# Altium integrated library ISSI SRAM Synchronous SRAM No-Wait(ZBT).IntLib: 1246 symbols (part 44 of 152)
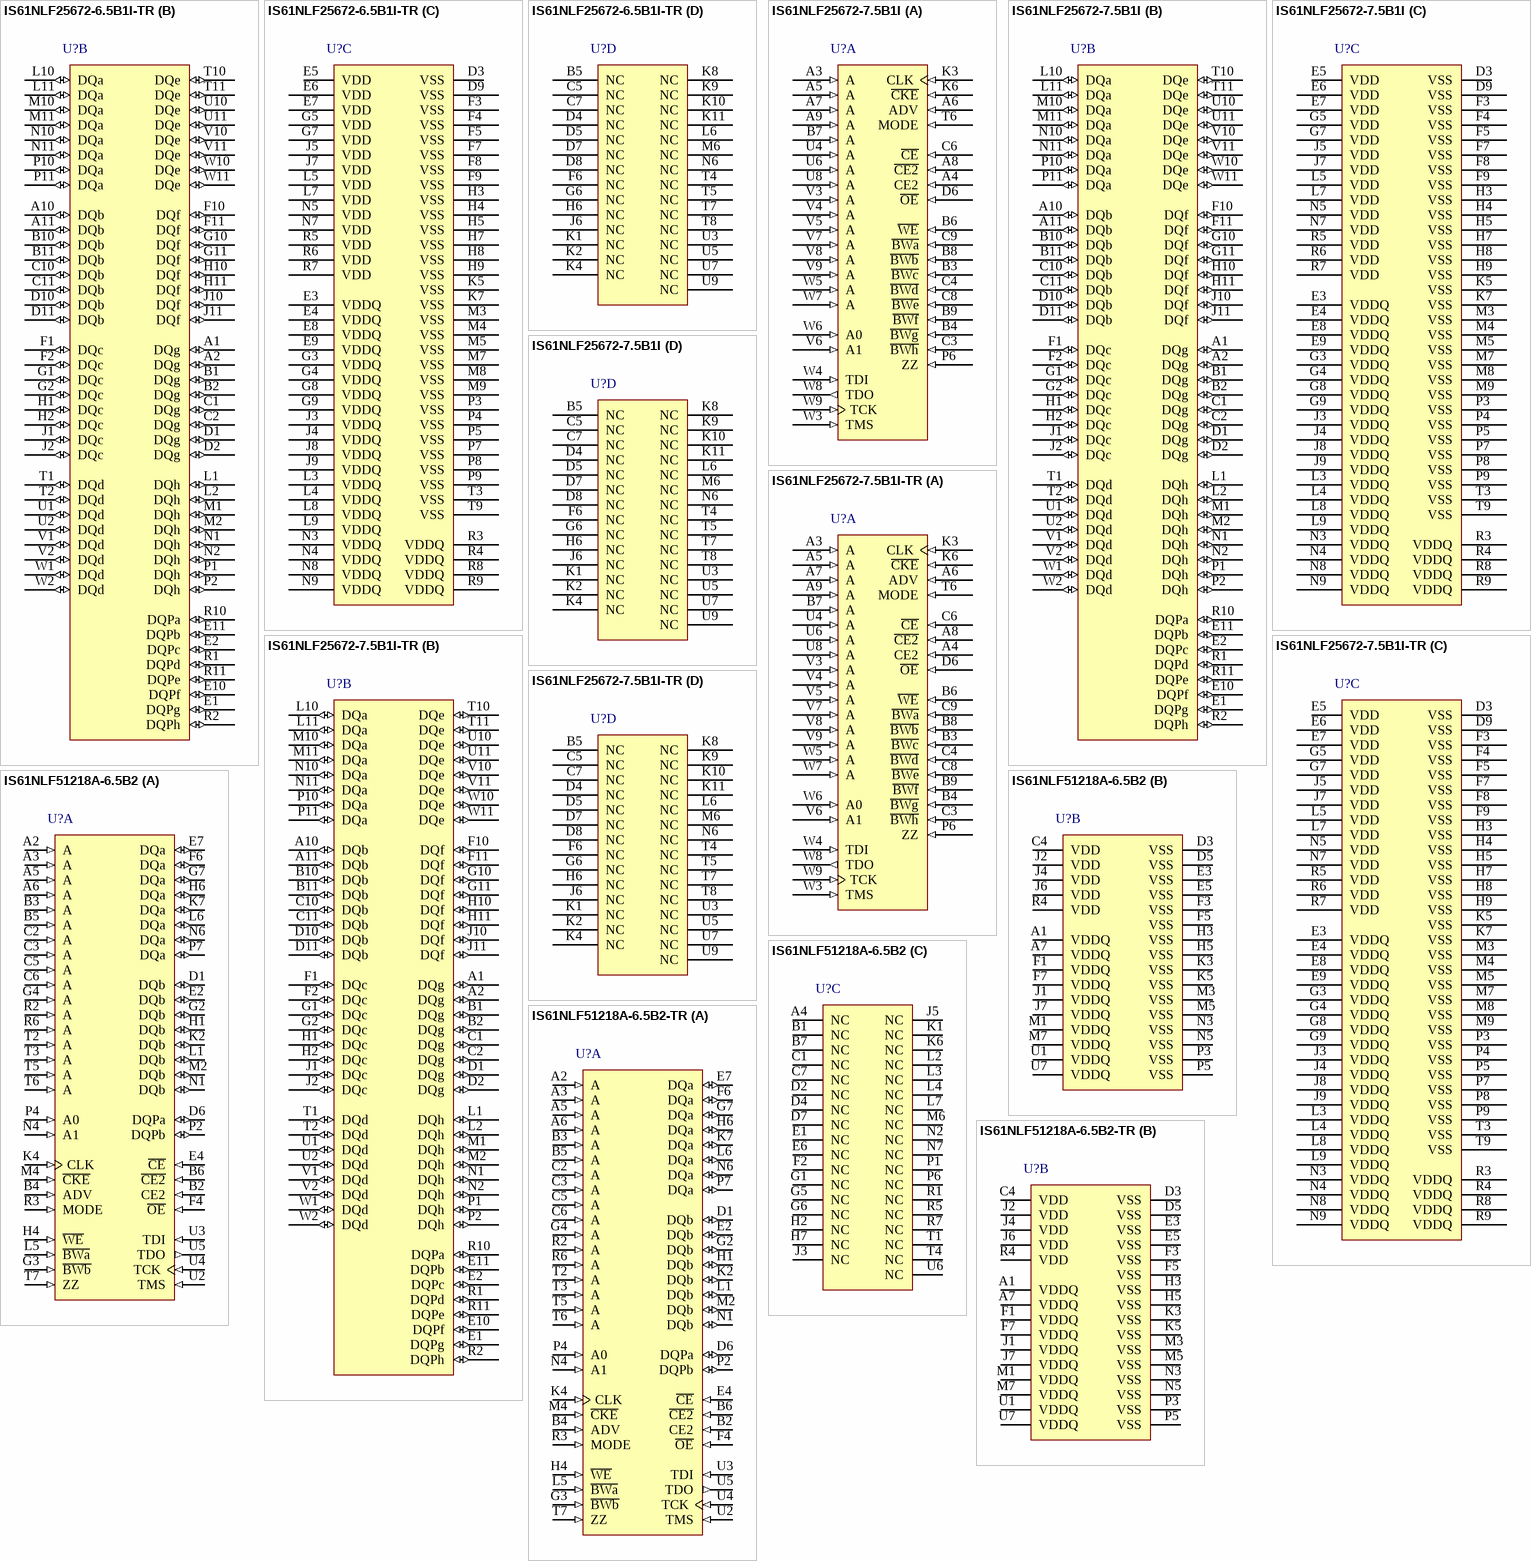
[diagram p260: symbols IS61NLF25672-6.5B1I-TR to IS61NLF51218A-6.5B2-TR]

## IS61NLF25672-7.5B1I
designator U?
18 M Flow Through 'No Wait' State Bus SRAM, 256 K x 72, -40 to 85 degC, 209-Pin BGA (LF-BGA-209); Manufacturer: Integrated Silicon Solution Inc (ISSI); PartNumber: IS61NLF25672-7.5B1I; Density: 18M; Packing: Tube / Tray; Vcc: 3.3 V; VccQ: 2.5 / 3.3 V; DatasheetVersion: Rev. D; PackageVersion: Rev. B, 12/2007; PackageReference: LF-BGA-209; PackageDescription: 209-Pin 14 x 22 mm LF-BGA, Pitch 1 mm; Supplier 1: Mouser; Supplier Part Number 1: N/A; Organization: 256Kx72; Mounting Technology: Surface Mount; ComponentLink1Description: Manufacturer URL; ComponentLink1URL: http://www.issi.com/US/index.shtml; ComponentLink2Description: Datasheet; ComponentLink2URL: http://www.issi.com/WW/pdf/61NLF_NVF25672_51236_102418.pdf; ComponentLink3Description: Package Specification; ComponentLink3URL: http://www.issi.com/WW/pdf/61NLF_NVF25672_51236_102418.pdf
footprint ISSI-LF-BGA-209-14000X22000DE (BGA, 209-Balls, Body 22x14mm, Pitch 1mm)
part A pins: A3 A (in) "Synchronous Address Input", A4 CE2 (in) "Synchronous Chip Enable", A5 A (in) "Synchronous Address Input", A6 ADV (in) "Synchronous Burst Address Advance", A7 A (in) "Synchronous Address Input", A8 ~{CE2} (in) "Synchronous Chip Enable", A9 A (in) "Synchronous Address Input", B3 ~{BWc} (in) "Synchronous Byte Write Enable", B4 ~{BWg} (in) "Synchronous Byte Write Enable", B6 ~{WE} (in) "Write Enable", B7 A (in) "Synchronous Address Input", B8 ~{BWb} (in) "Synchronous Byte Write Enable", B9 ~{BWf} (in) "Synchronous Byte Write Enable", C3 ~{BWh} (in) "Synchronous Byte Write Enable", C4 ~{BWd} (in) "Synchronous Byte Write Enable", C6 ~{CE} (in) "Synchronous Chip Enable", C8 ~{BWe} (in) "Synchronous Byte Write Enable", C9 ~{BWa} (in) "Synchronous Byte Write Enable", D6 ~{OE} (in) "Output Enable", K3 CLK (in) "Synchronous Clock", K6 ~{CKE} (in) "Clock Enable", P6 ZZ (in) "Snooze Enable", T6 MODE (in) "Burst Sequence Selection", U4 A (in) "Synchronous Address Input", U6 A (in) "Synchronous Address Input", U8 A (in) "Synchronous Address Input", V3 A (in) "Synchronous Address Input", V4 A (in) "Synchronous Address Input", V5 A (in) "Synchronous Address Input", V6 A1 (in) "Synchronous Address Input. This pin must tied to the two LSBs of the address bus.", V7 A (in) "Synchronous Address Input", V8 A (in) "Synchronous Address Input", V9 A (in) "Synchronous Address Input", W3 TMS (in) "JTAG Pin", W4 TDI (in) "JTAG Pin", W5 A (in) "Synchronous Address Input", W6 A0 (in) "Synchronous Address Input. This pin must tied to the two LSBs of the address bus.", W7 A (in) "Synchronous Address Input", W8 TDO (out) "JTAG Pin", W9 TCK (in) "JTAG Pin"
part B pins: A1 DQg (io) "Synchronous Data Input/Output", A2 DQg (io) "Synchronous Data Input/Output", A10 DQb (io) "Synchronous Data Input/Output", A11 DQb (io) "Synchronous Data Input/Output", B1 DQg (io) "Synchronous Data Input/Output", B2 DQg (io) "Synchronous Data Input/Output", B10 DQb (io) "Synchronous Data Input/Output", B11 DQb (io) "Synchronous Data Input/Output", C1 DQg (io) "Synchronous Data Input/Output", C2 DQg (io) "Synchronous Data Input/Output", C10 DQb (io) "Synchronous Data Input/Output", C11 DQb (io) "Synchronous Data Input/Output", D1 DQg (io) "Synchronous Data Input/Output", D2 DQg (io) "Synchronous Data Input/Output", D10 DQb (io) "Synchronous Data Input/Output", D11 DQb (io) "Synchronous Data Input/Output", E1 DQPg (io) "Parity Data I/O", E2 DQPc (io) "Parity Data I/O", E10 DQPf (io) "Parity Data I/O", E11 DQPb (io) "Parity Data I/O", F1 DQc (io) "Synchronous Data Input/Output", F2 DQc (io) "Synchronous Data Input/Output", F10 DQf (io) "Synchronous Data Input/Output", F11 DQf (io) "Synchronous Data Input/Output", G1 DQc (io) "Synchronous Data Input/Output", G2 DQc (io) "Synchronous Data Input/Output", G10 DQf (io) "Synchronous Data Input/Output", G11 DQf (io) "Synchronous Data Input/Output", H1 DQc (io) "Synchronous Data Input/Output", H2 DQc (io) "Synchronous Data Input/Output", H10 DQf (io) "Synchronous Data Input/Output", H11 DQf (io) "Synchronous Data Input/Output", J1 DQc (io) "Synchronous Data Input/Output", J2 DQc (io) "Synchronous Data Input/Output", J10 DQf (io) "Synchronous Data Input/Output", J11 DQf (io) "Synchronous Data Input/Output", L1 DQh (io) "Synchronous Data Input/Output", L2 DQh (io) "Synchronous Data Input/Output", L10 DQa (io) "Synchronous Data Input/Output", L11 DQa (io) "Synchronous Data Input/Output", M1 DQh (io) "Synchronous Data Input/Output", M2 DQh (io) "Synchronous Data Input/Output", M10 DQa (io) "Synchronous Data Input/Output", M11 DQa (io) "Synchronous Data Input/Output", N1 DQh (io) "Synchronous Data Input/Output", N2 DQh (io) "Synchronous Data Input/Output", N10 DQa (io) "Synchronous Data Input/Output", N11 DQa (io) "Synchronous Data Input/Output", P1 DQh (io) "Synchronous Data Input/Output", P2 DQh (io) "Synchronous Data Input/Output", P10 DQa (io) "Synchronous Data Input/Output", P11 DQa (io) "Synchronous Data Input/Output", R1 DQPd (io) "Parity Data I/O", R2 DQPh (io) "Parity Data I/O", R10 DQPa (io) "Parity Data I/O", R11 DQPe (io) "Parity Data I/O", T1 DQd (io) "Synchronous Data Input/Output", T2 DQd (io) "Synchronous Data Input/Output", T10 DQe (io) "Synchronous Data Input/Output", T11 DQe (io) "Synchronous Data Input/Output", U1 DQd (io) "Synchronous Data Input/Output", U2 DQd (io) "Synchronous Data Input/Output", U10 DQe (io) "Synchronous Data Input/Output", U11 DQe (io) "Synchronous Data Input/Output", V1 DQd (io) "Synchronous Data Input/Output", V2 DQd (io) "Synchronous Data Input/Output", V10 DQe (io) "Synchronous Data Input/Output", V11 DQe (io) "Synchronous Data Input/Output", W1 DQd (io) "Synchronous Data Input/Output", W2 DQd (io) "Synchronous Data Input/Output", W10 DQe (io) "Synchronous Data Input/Output", W11 DQe (io) "Synchronous Data Input/Output"
part C pins: D3 VSS (power) "Ground", D9 VSS (power) "Ground", E3 VDDQ (power) "Isolated Output Buffer Supply:3.3V/2.5V", E4 VDDQ (power) "Isolated Output Buffer Supply:3.3V/2.5V", E5 VDD (power) "3.3V/2.5V Power Supply", E6 VDD (power) "3.3V/2.5V Power Supply", E7 VDD (power) "3.3V/2.5V Power Supply", E8 VDDQ (power) "Isolated Output Buffer Supply:3.3V/2.5V", E9 VDDQ (power) "Isolated Output Buffer Supply:3.3V/2.5V", F3 VSS (power) "Ground", F4 VSS (power) "Ground", F5 VSS (power) "Ground", F7 VSS (power) "Ground", F8 VSS (power) "Ground", F9 VSS (power) "Ground", G3 VDDQ (power) "Isolated Output Buffer Supply:3.3V/2.5V", G4 VDDQ (power) "Isolated Output Buffer Supply:3.3V/2.5V", G5 VDD (power) "3.3V/2.5V Power Supply", G7 VDD (power) "3.3V/2.5V Power Supply", G8 VDDQ (power) "Isolated Output Buffer Supply:3.3V/2.5V", G9 VDDQ (power) "Isolated Output Buffer Supply:3.3V/2.5V", H3 VSS (power) "Ground", H4 VSS (power) "Ground", H5 VSS (power) "Ground", H7 VSS (power) "Ground", H8 VSS (power) "Ground", H9 VSS (power) "Ground", J3 VDDQ (power) "Isolated Output Buffer Supply:3.3V/2.5V", J4 VDDQ (power) "Isolated Output Buffer Supply:3.3V/2.5V", J5 VDD (power) "3.3V/2.5V Power Supply", J7 VDD (power) "3.3V/2.5V Power Supply", J8 VDDQ (power) "Isolated Output Buffer Supply:3.3V/2.5V", J9 VDDQ (power) "Isolated Output Buffer Supply:3.3V/2.5V", K5 VSS (power) "Ground", K7 VSS (power) "Ground", L3 VDDQ (power) "Isolated Output Buffer Supply:3.3V/2.5V", L4 VDDQ (power) "Isolated Output Buffer Supply:3.3V/2.5V", L5 VDD (power) "3.3V/2.5V Power Supply", L7 VDD (power) "3.3V/2.5V Power Supply", L8 VDDQ (power) "Isolated Output Buffer Supply:3.3V/2.5V", L9 VDDQ (power) "Isolated Output Buffer Supply:3.3V/2.5V", M3 VSS (power) "Ground", M4 VSS (power) "Ground", M5 VSS (power) "Ground", M7 VSS (power) "Ground", M8 VSS (power) "Ground", M9 VSS (power) "Ground", N3 VDDQ (power) "Isolated Output Buffer Supply:3.3V/2.5V", N4 VDDQ (power) "Isolated Output Buffer Supply:3.3V/2.5V", N5 VDD (power) "3.3V/2.5V Power Supply", N7 VDD (power) "3.3V/2.5V Power Supply", N8 VDDQ (power) "Isolated Output Buffer Supply:3.3V/2.5V", N9 VDDQ (power) "Isolated Output Buffer Supply:3.3V/2.5V", P3 VSS (power) "Ground", P4 VSS (power) "Ground", P5 VSS (power) "Ground", P7 VSS (power) "Ground", P8 VSS (power) "Ground", P9 VSS (power) "Ground", R3 VDDQ (power) "Isolated Output Buffer Supply:3.3V/2.5V", R4 VDDQ (power) "Isolated Output Buffer Supply:3.3V/2.5V", R5 VDD (power) "3.3V/2.5V Power Supply", R6 VDD (power) "3.3V/2.5V Power Supply", R7 VDD (power) "3.3V/2.5V Power Supply", R8 VDDQ (power) "Isolated Output Buffer Supply:3.3V/2.5V", R9 VDDQ (power) "Isolated Output Buffer Supply:3.3V/2.5V", T3 VSS (power) "Ground", T9 VSS (power) "Ground"
part D pins: B5 NC, C5 NC, C7 NC, D4 NC, D5 NC, D7 NC, D8 NC, F6 NC, G6 NC, H6 NC, J6 NC, K1 NC, K2 NC, K4 NC, K8 NC, K9 NC, K10 NC, K11 NC, L6 NC, M6 NC, N6 NC, T4 NC, T5 NC, T7 NC, T8 NC, U3 NC, U5 NC, U7 NC, U9 NC

## IS61NLF25672-7.5B1I-TR
designator U?
18 M Flow Through 'No Wait' State Bus SRAM, 256 K x 72, -40 to 85 degC, 209-Pin BGA (LF-BGA-209); Manufacturer: Integrated Silicon Solution Inc (ISSI); PartNumber: IS61NLF25672-7.5B1I-TR; Density: 18M; Packing: Tape & Reel; Vcc: 3.3 V; VccQ: 2.5 / 3.3 V; DatasheetVersion: Rev. D; PackageVersion: Rev. B, 12/2007; PackageReference: LF-BGA-209; PackageDescription: 209-Pin 14 x 22 mm LF-BGA, Pitch 1 mm; Supplier 1: Mouser; Supplier Part Number 1: N/A; Organization: 256Kx72; Mounting Technology: Surface Mount; ComponentLink1Description: Manufacturer URL; ComponentLink1URL: http://www.issi.com/US/index.shtml; ComponentLink2Description: Datasheet; ComponentLink2URL: http://www.issi.com/WW/pdf/61NLF_NVF25672_51236_102418.pdf; ComponentLink3Description: Package Specification; ComponentLink3URL: http://www.issi.com/WW/pdf/61NLF_NVF25672_51236_102418.pdf
footprint ISSI-LF-BGA-209-14000X22000DE (BGA, 209-Balls, Body 22x14mm, Pitch 1mm)
part A pins: A3 A (in) "Synchronous Address Input", A4 CE2 (in) "Synchronous Chip Enable", A5 A (in) "Synchronous Address Input", A6 ADV (in) "Synchronous Burst Address Advance", A7 A (in) "Synchronous Address Input", A8 ~{CE2} (in) "Synchronous Chip Enable", A9 A (in) "Synchronous Address Input", B3 ~{BWc} (in) "Synchronous Byte Write Enable", B4 ~{BWg} (in) "Synchronous Byte Write Enable", B6 ~{WE} (in) "Write Enable", B7 A (in) "Synchronous Address Input", B8 ~{BWb} (in) "Synchronous Byte Write Enable", B9 ~{BWf} (in) "Synchronous Byte Write Enable", C3 ~{BWh} (in) "Synchronous Byte Write Enable", C4 ~{BWd} (in) "Synchronous Byte Write Enable", C6 ~{CE} (in) "Synchronous Chip Enable", C8 ~{BWe} (in) "Synchronous Byte Write Enable", C9 ~{BWa} (in) "Synchronous Byte Write Enable", D6 ~{OE} (in) "Output Enable", K3 CLK (in) "Synchronous Clock", K6 ~{CKE} (in) "Clock Enable", P6 ZZ (in) "Snooze Enable", T6 MODE (in) "Burst Sequence Selection", U4 A (in) "Synchronous Address Input", U6 A (in) "Synchronous Address Input", U8 A (in) "Synchronous Address Input", V3 A (in) "Synchronous Address Input", V4 A (in) "Synchronous Address Input", V5 A (in) "Synchronous Address Input", V6 A1 (in) "Synchronous Address Input. This pin must tied to the two LSBs of the address bus.", V7 A (in) "Synchronous Address Input", V8 A (in) "Synchronous Address Input", V9 A (in) "Synchronous Address Input", W3 TMS (in) "JTAG Pin", W4 TDI (in) "JTAG Pin", W5 A (in) "Synchronous Address Input", W6 A0 (in) "Synchronous Address Input. This pin must tied to the two LSBs of the address bus.", W7 A (in) "Synchronous Address Input", W8 TDO (out) "JTAG Pin", W9 TCK (in) "JTAG Pin"
part B pins: A1 DQg (io) "Synchronous Data Input/Output", A2 DQg (io) "Synchronous Data Input/Output", A10 DQb (io) "Synchronous Data Input/Output", A11 DQb (io) "Synchronous Data Input/Output", B1 DQg (io) "Synchronous Data Input/Output", B2 DQg (io) "Synchronous Data Input/Output", B10 DQb (io) "Synchronous Data Input/Output", B11 DQb (io) "Synchronous Data Input/Output", C1 DQg (io) "Synchronous Data Input/Output", C2 DQg (io) "Synchronous Data Input/Output", C10 DQb (io) "Synchronous Data Input/Output", C11 DQb (io) "Synchronous Data Input/Output", D1 DQg (io) "Synchronous Data Input/Output", D2 DQg (io) "Synchronous Data Input/Output", D10 DQb (io) "Synchronous Data Input/Output", D11 DQb (io) "Synchronous Data Input/Output", E1 DQPg (io) "Parity Data I/O", E2 DQPc (io) "Parity Data I/O", E10 DQPf (io) "Parity Data I/O", E11 DQPb (io) "Parity Data I/O", F1 DQc (io) "Synchronous Data Input/Output", F2 DQc (io) "Synchronous Data Input/Output", F10 DQf (io) "Synchronous Data Input/Output", F11 DQf (io) "Synchronous Data Input/Output", G1 DQc (io) "Synchronous Data Input/Output", G2 DQc (io) "Synchronous Data Input/Output", G10 DQf (io) "Synchronous Data Input/Output", G11 DQf (io) "Synchronous Data Input/Output", H1 DQc (io) "Synchronous Data Input/Output", H2 DQc (io) "Synchronous Data Input/Output", H10 DQf (io) "Synchronous Data Input/Output", H11 DQf (io) "Synchronous Data Input/Output", J1 DQc (io) "Synchronous Data Input/Output", J2 DQc (io) "Synchronous Data Input/Output", J10 DQf (io) "Synchronous Data Input/Output", J11 DQf (io) "Synchronous Data Input/Output", L1 DQh (io) "Synchronous Data Input/Output", L2 DQh (io) "Synchronous Data Input/Output", L10 DQa (io) "Synchronous Data Input/Output", L11 DQa (io) "Synchronous Data Input/Output", M1 DQh (io) "Synchronous Data Input/Output", M2 DQh (io) "Synchronous Data Input/Output", M10 DQa (io) "Synchronous Data Input/Output", M11 DQa (io) "Synchronous Data Input/Output", N1 DQh (io) "Synchronous Data Input/Output", N2 DQh (io) "Synchronous Data Input/Output", N10 DQa (io) "Synchronous Data Input/Output", N11 DQa (io) "Synchronous Data Input/Output", P1 DQh (io) "Synchronous Data Input/Output", P2 DQh (io) "Synchronous Data Input/Output", P10 DQa (io) "Synchronous Data Input/Output", P11 DQa (io) "Synchronous Data Input/Output", R1 DQPd (io) "Parity Data I/O", R2 DQPh (io) "Parity Data I/O", R10 DQPa (io) "Parity Data I/O", R11 DQPe (io) "Parity Data I/O", T1 DQd (io) "Synchronous Data Input/Output", T2 DQd (io) "Synchronous Data Input/Output", T10 DQe (io) "Synchronous Data Input/Output", T11 DQe (io) "Synchronous Data Input/Output", U1 DQd (io) "Synchronous Data Input/Output", U2 DQd (io) "Synchronous Data Input/Output", U10 DQe (io) "Synchronous Data Input/Output", U11 DQe (io) "Synchronous Data Input/Output", V1 DQd (io) "Synchronous Data Input/Output", V2 DQd (io) "Synchronous Data Input/Output", V10 DQe (io) "Synchronous Data Input/Output", V11 DQe (io) "Synchronous Data Input/Output", W1 DQd (io) "Synchronous Data Input/Output", W2 DQd (io) "Synchronous Data Input/Output", W10 DQe (io) "Synchronous Data Input/Output", W11 DQe (io) "Synchronous Data Input/Output"
part C pins: D3 VSS (power) "Ground", D9 VSS (power) "Ground", E3 VDDQ (power) "Isolated Output Buffer Supply:3.3V/2.5V", E4 VDDQ (power) "Isolated Output Buffer Supply:3.3V/2.5V", E5 VDD (power) "3.3V/2.5V Power Supply", E6 VDD (power) "3.3V/2.5V Power Supply", E7 VDD (power) "3.3V/2.5V Power Supply", E8 VDDQ (power) "Isolated Output Buffer Supply:3.3V/2.5V", E9 VDDQ (power) "Isolated Output Buffer Supply:3.3V/2.5V", F3 VSS (power) "Ground", F4 VSS (power) "Ground", F5 VSS (power) "Ground", F7 VSS (power) "Ground", F8 VSS (power) "Ground", F9 VSS (power) "Ground", G3 VDDQ (power) "Isolated Output Buffer Supply:3.3V/2.5V", G4 VDDQ (power) "Isolated Output Buffer Supply:3.3V/2.5V", G5 VDD (power) "3.3V/2.5V Power Supply", G7 VDD (power) "3.3V/2.5V Power Supply", G8 VDDQ (power) "Isolated Output Buffer Supply:3.3V/2.5V", G9 VDDQ (power) "Isolated Output Buffer Supply:3.3V/2.5V", H3 VSS (power) "Ground", H4 VSS (power) "Ground", H5 VSS (power) "Ground", H7 VSS (power) "Ground", H8 VSS (power) "Ground", H9 VSS (power) "Ground", J3 VDDQ (power) "Isolated Output Buffer Supply:3.3V/2.5V", J4 VDDQ (power) "Isolated Output Buffer Supply:3.3V/2.5V", J5 VDD (power) "3.3V/2.5V Power Supply", J7 VDD (power) "3.3V/2.5V Power Supply", J8 VDDQ (power) "Isolated Output Buffer Supply:3.3V/2.5V", J9 VDDQ (power) "Isolated Output Buffer Supply:3.3V/2.5V", K5 VSS (power) "Ground", K7 VSS (power) "Ground", L3 VDDQ (power) "Isolated Output Buffer Supply:3.3V/2.5V", L4 VDDQ (power) "Isolated Output Buffer Supply:3.3V/2.5V", L5 VDD (power) "3.3V/2.5V Power Supply", L7 VDD (power) "3.3V/2.5V Power Supply", L8 VDDQ (power) "Isolated Output Buffer Supply:3.3V/2.5V", L9 VDDQ (power) "Isolated Output Buffer Supply:3.3V/2.5V", M3 VSS (power) "Ground", M4 VSS (power) "Ground", M5 VSS (power) "Ground", M7 VSS (power) "Ground", M8 VSS (power) "Ground", M9 VSS (power) "Ground", N3 VDDQ (power) "Isolated Output Buffer Supply:3.3V/2.5V", N4 VDDQ (power) "Isolated Output Buffer Supply:3.3V/2.5V", N5 VDD (power) "3.3V/2.5V Power Supply", N7 VDD (power) "3.3V/2.5V Power Supply", N8 VDDQ (power) "Isolated Output Buffer Supply:3.3V/2.5V", N9 VDDQ (power) "Isolated Output Buffer Supply:3.3V/2.5V", P3 VSS (power) "Ground", P4 VSS (power) "Ground", P5 VSS (power) "Ground", P7 VSS (power) "Ground", P8 VSS (power) "Ground", P9 VSS (power) "Ground", R3 VDDQ (power) "Isolated Output Buffer Supply:3.3V/2.5V", R4 VDDQ (power) "Isolated Output Buffer Supply:3.3V/2.5V", R5 VDD (power) "3.3V/2.5V Power Supply", R6 VDD (power) "3.3V/2.5V Power Supply", R7 VDD (power) "3.3V/2.5V Power Supply", R8 VDDQ (power) "Isolated Output Buffer Supply:3.3V/2.5V", R9 VDDQ (power) "Isolated Output Buffer Supply:3.3V/2.5V", T3 VSS (power) "Ground", T9 VSS (power) "Ground"
part D pins: B5 NC, C5 NC, C7 NC, D4 NC, D5 NC, D7 NC, D8 NC, F6 NC, G6 NC, H6 NC, J6 NC, K1 NC, K2 NC, K4 NC, K8 NC, K9 NC, K10 NC, K11 NC, L6 NC, M6 NC, N6 NC, T4 NC, T5 NC, T7 NC, T8 NC, U3 NC, U5 NC, U7 NC, U9 NC

## IS61NLF51218A-6.5B2
designator U?
9 M Flow Through 'No Wait' State Bus SRAM, 512 K x 18, 0 to 70 degC, 119-Pin BGA (PBGA-119); Manufacturer: Integrated Silicon Solution Inc (ISSI); PartNumber: IS61NLF51218A-6.5B2; Density: 9M; Packing: Tube / Tray; Vcc: 3.3 V; VccQ: 2.5 / 3.3 V; DatasheetVersion: Rev. F; PackageVersion: Rev. D, 10/2008; PackageReference: PBGA-119; PackageDescription: 119-Pin 14 x 22 mm PBGA, Pitch 1.27 mm; Organization: 512Kx18; Mounting Technology: Surface Mount; Code_JEDEC: MS-028; ComponentLink1Description: Manufacturer URL; ComponentLink1URL: http://www.issi.com/US/index.shtml; ComponentLink2Description: Datasheet; ComponentLink2URL: http://www.issi.com/WW/pdf/61NLF_NVF25636A_51218A.pdf; ComponentLink3Description: Package Specification; ComponentLink3URL: http://www.issi.com/WW/pdf/61NLP_NVP25636A_51218A.pdf
footprint ISSI-PBGA-119-14000X22000DE (BGA, 119-Balls, Body 22x14mm, Pitch 1.27mm)
part A pins: A2 A (in) "Address Input", A3 A (in) "Address Input", A5 A (in) "Address Input", A6 A (in) "Address Input", B2 CE2 (in) "Synchronous Chip Select", B3 A (in) "Address Input", B4 ADV (in) "Synchronous Burst Address Advance/Load", B5 A (in) "Address Input", B6 ~{CE2} (in) "Synchronous Chip Select", C2 A (in) "Address Input", C3 A (in) "Address Input", C5 A (in) "Address Input", C6 A (in) "Address Input", D1 DQb (io) "Data Inputs/Outputs", D6 DQPa (io) "Parity Data I/O", E2 DQb (io) "Data Inputs/Outputs", E4 ~{CE} (in) "Synchronous Chip Select", E7 DQa (io) "Data Inputs/Outputs", F4 ~{OE} (in) "Output Enable", F6 DQa (io) "Data Inputs/Outputs", G2 DQb (io) "Data Inputs/Outputs", G3 ~{BWb} (in) "Synchronous Byte Write Inputs", G4 A (in) "Address Input", G7 DQa (io) "Data Inputs/Outputs", H1 DQb (io) "Data Inputs/Outputs", H4 ~{WE} (in) "Synchronous Read/Write Control Input", H6 DQa (io) "Data Inputs/Outputs", K2 DQb (io) "Data Inputs/Outputs", K4 CLK (in) "Synchronous Clock", K7 DQa (io) "Data Inputs/Outputs", L1 DQb (io) "Data Inputs/Outputs", L5 ~{BWa} (in) "Synchronous Byte Write Inputs", L6 DQa (io) "Data Inputs/Outputs", M2 DQb (io) "Data Inputs/Outputs", M4 ~{CKE} (in) "Clock Enable", N1 DQb (io) "Data Inputs/Outputs", N4 A1 (in) "Synchronous Burst Address Inputs", N6 DQa (io) "Data Inputs/Outputs", P2 DQPb (io) "Parity Data I/O", P4 A0 (in) "Synchronous Burst Address Inputs", P7 DQa (io) "Data Inputs/Outputs", R2 A (in) "Address Input", R3 MODE (in) "Burst Sequence Selection", R6 A (in) "Address Input", T2 A (in) "Address Input", T3 A (in) "Address Input", T5 A (in) "Address Input", T6 A (in) "Address Input", T7 ZZ (in) "Power Sleep Mode", U2 TMS (in) "JTAG Pins", U3 TDI (in) "JTAG Pins", U4 TCK (in) "JTAG Pins", U5 TDO (out) "JTAG Pins"
part B pins: A1 VDDQ (power) "Output Power Supply", A7 VDDQ (power) "Output Power Supply", C4 VDD (power) "Power Supply", D3 VSS (power) "Ground", D5 VSS (power) "Ground", E3 VSS (power) "Ground", E5 VSS (power) "Ground", F1 VDDQ (power) "Output Power Supply", F3 VSS (power) "Ground", F5 VSS (power) "Ground", F7 VDDQ (power) "Output Power Supply", H3 VSS (power) "Ground", H5 VSS (power) "Ground", J1 VDDQ (power) "Output Power Supply", J2 VDD (power) "Power Supply", J4 VDD (power) "Power Supply", J6 VDD (power) "Power Supply", J7 VDDQ (power) "Output Power Supply", K3 VSS (power) "Ground", K5 VSS (power) "Ground", M1 VDDQ (power) "Output Power Supply", M3 VSS (power) "Ground", M5 VSS (power) "Ground", M7 VDDQ (power) "Output Power Supply", N3 VSS (power) "Ground", N5 VSS (power) "Ground", P3 VSS (power) "Ground", P5 VSS (power) "Ground", R4 VDD (power) "Power Supply", U1 VDDQ (power) "Output Power Supply", U7 VDDQ (power) "Output Power Supply"
part C pins: A4 NC "No Connect", B1 NC "No Connect", B7 NC "No Connect", C1 NC "No Connect", C7 NC "No Connect", D2 NC "No Connect", D4 NC "No Connect", D7 NC "No Connect", E1 NC "No Connect", E6 NC "No Connect", F2 NC "No Connect", G1 NC "No Connect", G5 NC "No Connect", G6 NC "No Connect", H2 NC "No Connect", H7 NC "No Connect", J3 NC "No Connect", J5 NC "No Connect", K1 NC "No Connect", K6 NC "No Connect", L2 NC "No Connect", L3 NC "No Connect", L4 NC "No Connect", L7 NC "No Connect", M6 NC "No Connect", N2 NC "No Connect", N7 NC "No Connect", P1 NC "No Connect", P6 NC "No Connect", R1 NC "No Connect", R5 NC "No Connect", R7 NC "No Connect", T1 NC "No Connect", T4 NC "No Connect", U6 NC "No Connect"

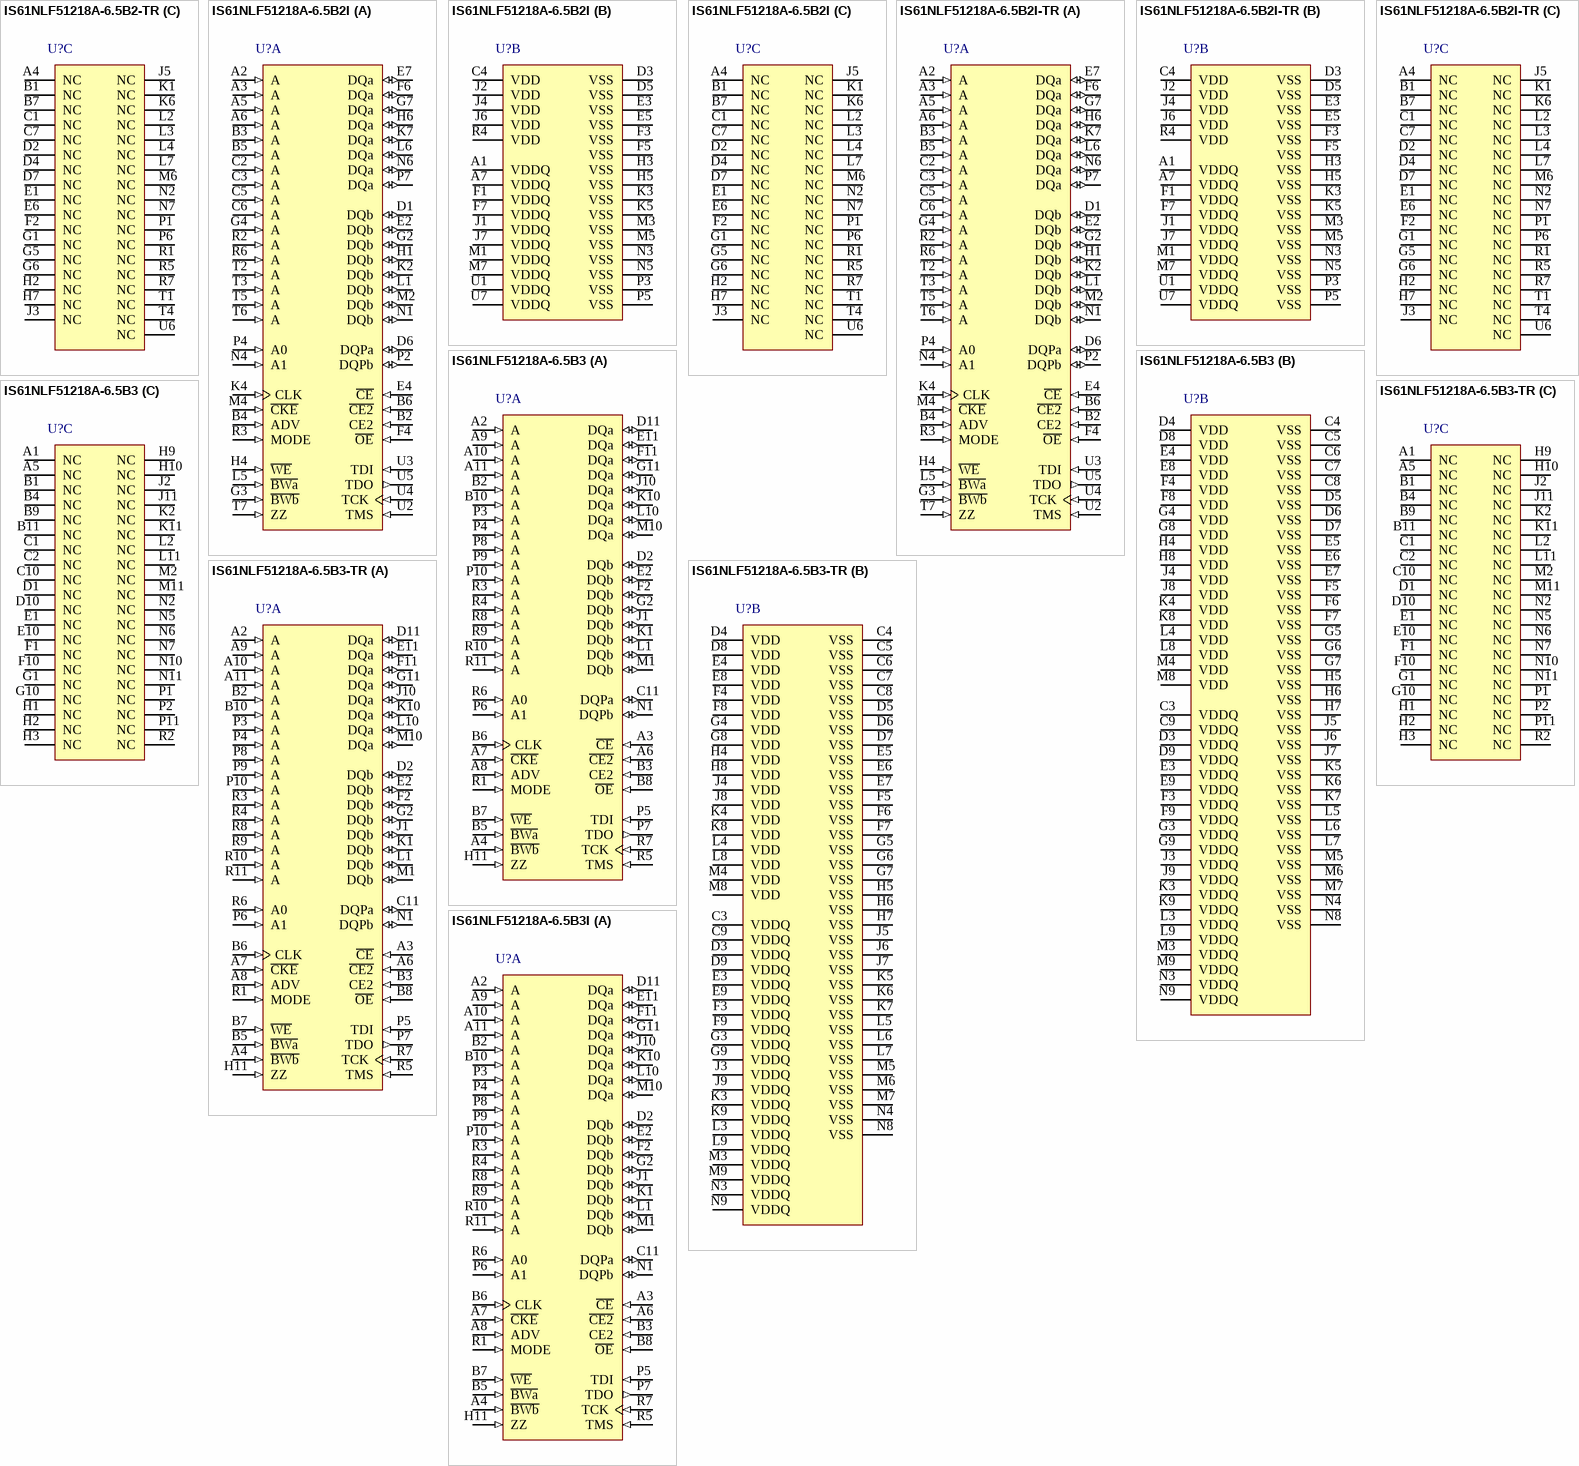
[diagram p45: symbols IS61NLF51218A-6.5B2-TR to IS61NLF51218A-6.5B3I]

## IS61NLF51218A-6.5B2-TR
designator U?
9 M Flow Through 'No Wait' State Bus SRAM, 512 K x 18, 0 to 70 degC, 119-Pin BGA (PBGA-119); Manufacturer: Integrated Silicon Solution Inc (ISSI); PartNumber: IS61NLF51218A-6.5B2-TR; Density: 9M; Packing: Tape & Reel; Vcc: 3.3 V; VccQ: 2.5 / 3.3 V; DatasheetVersion: Rev. F; PackageVersion: Rev. D, 10/2008; PackageReference: PBGA-119; PackageDescription: 119-Pin 14 x 22 mm PBGA, Pitch 1.27 mm; Organization: 512Kx18; Mounting Technology: Surface Mount; Code_JEDEC: MS-028; ComponentLink1Description: Manufacturer URL; ComponentLink1URL: http://www.issi.com/US/index.shtml; ComponentLink2Description: Datasheet; ComponentLink2URL: http://www.issi.com/WW/pdf/61NLF_NVF25636A_51218A.pdf; ComponentLink3Description: Package Specification; ComponentLink3URL: http://www.issi.com/WW/pdf/61NLP_NVP25636A_51218A.pdf
footprint ISSI-PBGA-119-14000X22000DE (BGA, 119-Balls, Body 22x14mm, Pitch 1.27mm)
part A pins: A2 A (in) "Address Input", A3 A (in) "Address Input", A5 A (in) "Address Input", A6 A (in) "Address Input", B2 CE2 (in) "Synchronous Chip Select", B3 A (in) "Address Input", B4 ADV (in) "Synchronous Burst Address Advance/Load", B5 A (in) "Address Input", B6 ~{CE2} (in) "Synchronous Chip Select", C2 A (in) "Address Input", C3 A (in) "Address Input", C5 A (in) "Address Input", C6 A (in) "Address Input", D1 DQb (io) "Data Inputs/Outputs", D6 DQPa (io) "Parity Data I/O", E2 DQb (io) "Data Inputs/Outputs", E4 ~{CE} (in) "Synchronous Chip Select", E7 DQa (io) "Data Inputs/Outputs", F4 ~{OE} (in) "Output Enable", F6 DQa (io) "Data Inputs/Outputs", G2 DQb (io) "Data Inputs/Outputs", G3 ~{BWb} (in) "Synchronous Byte Write Inputs", G4 A (in) "Address Input", G7 DQa (io) "Data Inputs/Outputs", H1 DQb (io) "Data Inputs/Outputs", H4 ~{WE} (in) "Synchronous Read/Write Control Input", H6 DQa (io) "Data Inputs/Outputs", K2 DQb (io) "Data Inputs/Outputs", K4 CLK (in) "Synchronous Clock", K7 DQa (io) "Data Inputs/Outputs", L1 DQb (io) "Data Inputs/Outputs", L5 ~{BWa} (in) "Synchronous Byte Write Inputs", L6 DQa (io) "Data Inputs/Outputs", M2 DQb (io) "Data Inputs/Outputs", M4 ~{CKE} (in) "Clock Enable", N1 DQb (io) "Data Inputs/Outputs", N4 A1 (in) "Synchronous Burst Address Inputs", N6 DQa (io) "Data Inputs/Outputs", P2 DQPb (io) "Parity Data I/O", P4 A0 (in) "Synchronous Burst Address Inputs", P7 DQa (io) "Data Inputs/Outputs", R2 A (in) "Address Input", R3 MODE (in) "Burst Sequence Selection", R6 A (in) "Address Input", T2 A (in) "Address Input", T3 A (in) "Address Input", T5 A (in) "Address Input", T6 A (in) "Address Input", T7 ZZ (in) "Power Sleep Mode", U2 TMS (in) "JTAG Pins", U3 TDI (in) "JTAG Pins", U4 TCK (in) "JTAG Pins", U5 TDO (out) "JTAG Pins"
part B pins: A1 VDDQ (power) "Output Power Supply", A7 VDDQ (power) "Output Power Supply", C4 VDD (power) "Power Supply", D3 VSS (power) "Ground", D5 VSS (power) "Ground", E3 VSS (power) "Ground", E5 VSS (power) "Ground", F1 VDDQ (power) "Output Power Supply", F3 VSS (power) "Ground", F5 VSS (power) "Ground", F7 VDDQ (power) "Output Power Supply", H3 VSS (power) "Ground", H5 VSS (power) "Ground", J1 VDDQ (power) "Output Power Supply", J2 VDD (power) "Power Supply", J4 VDD (power) "Power Supply", J6 VDD (power) "Power Supply", J7 VDDQ (power) "Output Power Supply", K3 VSS (power) "Ground", K5 VSS (power) "Ground", M1 VDDQ (power) "Output Power Supply", M3 VSS (power) "Ground", M5 VSS (power) "Ground", M7 VDDQ (power) "Output Power Supply", N3 VSS (power) "Ground", N5 VSS (power) "Ground", P3 VSS (power) "Ground", P5 VSS (power) "Ground", R4 VDD (power) "Power Supply", U1 VDDQ (power) "Output Power Supply", U7 VDDQ (power) "Output Power Supply"
part C pins: A4 NC "No Connect", B1 NC "No Connect", B7 NC "No Connect", C1 NC "No Connect", C7 NC "No Connect", D2 NC "No Connect", D4 NC "No Connect", D7 NC "No Connect", E1 NC "No Connect", E6 NC "No Connect", F2 NC "No Connect", G1 NC "No Connect", G5 NC "No Connect", G6 NC "No Connect", H2 NC "No Connect", H7 NC "No Connect", J3 NC "No Connect", J5 NC "No Connect", K1 NC "No Connect", K6 NC "No Connect", L2 NC "No Connect", L3 NC "No Connect", L4 NC "No Connect", L7 NC "No Connect", M6 NC "No Connect", N2 NC "No Connect", N7 NC "No Connect", P1 NC "No Connect", P6 NC "No Connect", R1 NC "No Connect", R5 NC "No Connect", R7 NC "No Connect", T1 NC "No Connect", T4 NC "No Connect", U6 NC "No Connect"

## IS61NLF51218A-6.5B2I
designator U?
9 M Flow Through 'No Wait' State Bus SRAM, 512 K x 18, -40 to 85 degC, 119-Pin BGA (PBGA-119); Manufacturer: Integrated Silicon Solution Inc (ISSI); PartNumber: IS61NLF51218A-6.5B2I; Density: 9M; Packing: Tube / Tray; Vcc: 3.3 V; VccQ: 2.5 / 3.3 V; DatasheetVersion: Rev. F; PackageVersion: Rev. D, 10/2008; PackageReference: PBGA-119; PackageDescription: 119-Pin 14 x 22 mm PBGA, Pitch 1.27 mm; Organization: 512Kx18; Mounting Technology: Surface Mount; Code_JEDEC: MS-028; ComponentLink1Description: Manufacturer URL; ComponentLink1URL: http://www.issi.com/US/index.shtml; ComponentLink2Description: Datasheet; ComponentLink2URL: http://www.issi.com/WW/pdf/61NLF_NVF25636A_51218A.pdf; ComponentLink3Description: Package Specification; ComponentLink3URL: http://www.issi.com/WW/pdf/61NLP_NVP25636A_51218A.pdf
footprint ISSI-PBGA-119-14000X22000DE (BGA, 119-Balls, Body 22x14mm, Pitch 1.27mm)
part A pins: A2 A (in) "Address Input", A3 A (in) "Address Input", A5 A (in) "Address Input", A6 A (in) "Address Input", B2 CE2 (in) "Synchronous Chip Select", B3 A (in) "Address Input", B4 ADV (in) "Synchronous Burst Address Advance/Load", B5 A (in) "Address Input", B6 ~{CE2} (in) "Synchronous Chip Select", C2 A (in) "Address Input", C3 A (in) "Address Input", C5 A (in) "Address Input", C6 A (in) "Address Input", D1 DQb (io) "Data Inputs/Outputs", D6 DQPa (io) "Parity Data I/O", E2 DQb (io) "Data Inputs/Outputs", E4 ~{CE} (in) "Synchronous Chip Select", E7 DQa (io) "Data Inputs/Outputs", F4 ~{OE} (in) "Output Enable", F6 DQa (io) "Data Inputs/Outputs", G2 DQb (io) "Data Inputs/Outputs", G3 ~{BWb} (in) "Synchronous Byte Write Inputs", G4 A (in) "Address Input", G7 DQa (io) "Data Inputs/Outputs", H1 DQb (io) "Data Inputs/Outputs", H4 ~{WE} (in) "Synchronous Read/Write Control Input", H6 DQa (io) "Data Inputs/Outputs", K2 DQb (io) "Data Inputs/Outputs", K4 CLK (in) "Synchronous Clock", K7 DQa (io) "Data Inputs/Outputs", L1 DQb (io) "Data Inputs/Outputs", L5 ~{BWa} (in) "Synchronous Byte Write Inputs", L6 DQa (io) "Data Inputs/Outputs", M2 DQb (io) "Data Inputs/Outputs", M4 ~{CKE} (in) "Clock Enable", N1 DQb (io) "Data Inputs/Outputs", N4 A1 (in) "Synchronous Burst Address Inputs", N6 DQa (io) "Data Inputs/Outputs", P2 DQPb (io) "Parity Data I/O", P4 A0 (in) "Synchronous Burst Address Inputs", P7 DQa (io) "Data Inputs/Outputs", R2 A (in) "Address Input", R3 MODE (in) "Burst Sequence Selection", R6 A (in) "Address Input", T2 A (in) "Address Input", T3 A (in) "Address Input", T5 A (in) "Address Input", T6 A (in) "Address Input", T7 ZZ (in) "Power Sleep Mode", U2 TMS (in) "JTAG Pins", U3 TDI (in) "JTAG Pins", U4 TCK (in) "JTAG Pins", U5 TDO (out) "JTAG Pins"
part B pins: A1 VDDQ (power) "Output Power Supply", A7 VDDQ (power) "Output Power Supply", C4 VDD (power) "Power Supply", D3 VSS (power) "Ground", D5 VSS (power) "Ground", E3 VSS (power) "Ground", E5 VSS (power) "Ground", F1 VDDQ (power) "Output Power Supply", F3 VSS (power) "Ground", F5 VSS (power) "Ground", F7 VDDQ (power) "Output Power Supply", H3 VSS (power) "Ground", H5 VSS (power) "Ground", J1 VDDQ (power) "Output Power Supply", J2 VDD (power) "Power Supply", J4 VDD (power) "Power Supply", J6 VDD (power) "Power Supply", J7 VDDQ (power) "Output Power Supply", K3 VSS (power) "Ground", K5 VSS (power) "Ground", M1 VDDQ (power) "Output Power Supply", M3 VSS (power) "Ground", M5 VSS (power) "Ground", M7 VDDQ (power) "Output Power Supply", N3 VSS (power) "Ground", N5 VSS (power) "Ground", P3 VSS (power) "Ground", P5 VSS (power) "Ground", R4 VDD (power) "Power Supply", U1 VDDQ (power) "Output Power Supply", U7 VDDQ (power) "Output Power Supply"
part C pins: A4 NC "No Connect", B1 NC "No Connect", B7 NC "No Connect", C1 NC "No Connect", C7 NC "No Connect", D2 NC "No Connect", D4 NC "No Connect", D7 NC "No Connect", E1 NC "No Connect", E6 NC "No Connect", F2 NC "No Connect", G1 NC "No Connect", G5 NC "No Connect", G6 NC "No Connect", H2 NC "No Connect", H7 NC "No Connect", J3 NC "No Connect", J5 NC "No Connect", K1 NC "No Connect", K6 NC "No Connect", L2 NC "No Connect", L3 NC "No Connect", L4 NC "No Connect", L7 NC "No Connect", M6 NC "No Connect", N2 NC "No Connect", N7 NC "No Connect", P1 NC "No Connect", P6 NC "No Connect", R1 NC "No Connect", R5 NC "No Connect", R7 NC "No Connect", T1 NC "No Connect", T4 NC "No Connect", U6 NC "No Connect"

## IS61NLF51218A-6.5B2I-TR
designator U?
9 M Flow Through 'No Wait' State Bus SRAM, 512 K x 18, -40 to 85 degC, 119-Pin BGA (PBGA-119); Manufacturer: Integrated Silicon Solution Inc (ISSI); PartNumber: IS61NLF51218A-6.5B2I-TR; Density: 9M; Packing: Tape & Reel; Vcc: 3.3 V; VccQ: 2.5 / 3.3 V; DatasheetVersion: Rev. F; PackageVersion: Rev. D, 10/2008; PackageReference: PBGA-119; PackageDescription: 119-Pin 14 x 22 mm PBGA, Pitch 1.27 mm; Organization: 512Kx18; Mounting Technology: Surface Mount; Code_JEDEC: MS-028; ComponentLink1Description: Manufacturer URL; ComponentLink1URL: http://www.issi.com/US/index.shtml; ComponentLink2Description: Datasheet; ComponentLink2URL: http://www.issi.com/WW/pdf/61NLF_NVF25636A_51218A.pdf; ComponentLink3Description: Package Specification; ComponentLink3URL: http://www.issi.com/WW/pdf/61NLP_NVP25636A_51218A.pdf
footprint ISSI-PBGA-119-14000X22000DE (BGA, 119-Balls, Body 22x14mm, Pitch 1.27mm)
part A pins: A2 A (in) "Address Input", A3 A (in) "Address Input", A5 A (in) "Address Input", A6 A (in) "Address Input", B2 CE2 (in) "Synchronous Chip Select", B3 A (in) "Address Input", B4 ADV (in) "Synchronous Burst Address Advance/Load", B5 A (in) "Address Input", B6 ~{CE2} (in) "Synchronous Chip Select", C2 A (in) "Address Input", C3 A (in) "Address Input", C5 A (in) "Address Input", C6 A (in) "Address Input", D1 DQb (io) "Data Inputs/Outputs", D6 DQPa (io) "Parity Data I/O", E2 DQb (io) "Data Inputs/Outputs", E4 ~{CE} (in) "Synchronous Chip Select", E7 DQa (io) "Data Inputs/Outputs", F4 ~{OE} (in) "Output Enable", F6 DQa (io) "Data Inputs/Outputs", G2 DQb (io) "Data Inputs/Outputs", G3 ~{BWb} (in) "Synchronous Byte Write Inputs", G4 A (in) "Address Input", G7 DQa (io) "Data Inputs/Outputs", H1 DQb (io) "Data Inputs/Outputs", H4 ~{WE} (in) "Synchronous Read/Write Control Input", H6 DQa (io) "Data Inputs/Outputs", K2 DQb (io) "Data Inputs/Outputs", K4 CLK (in) "Synchronous Clock", K7 DQa (io) "Data Inputs/Outputs", L1 DQb (io) "Data Inputs/Outputs", L5 ~{BWa} (in) "Synchronous Byte Write Inputs", L6 DQa (io) "Data Inputs/Outputs", M2 DQb (io) "Data Inputs/Outputs", M4 ~{CKE} (in) "Clock Enable", N1 DQb (io) "Data Inputs/Outputs", N4 A1 (in) "Synchronous Burst Address Inputs", N6 DQa (io) "Data Inputs/Outputs", P2 DQPb (io) "Parity Data I/O", P4 A0 (in) "Synchronous Burst Address Inputs", P7 DQa (io) "Data Inputs/Outputs", R2 A (in) "Address Input", R3 MODE (in) "Burst Sequence Selection", R6 A (in) "Address Input", T2 A (in) "Address Input", T3 A (in) "Address Input", T5 A (in) "Address Input", T6 A (in) "Address Input", T7 ZZ (in) "Power Sleep Mode", U2 TMS (in) "JTAG Pins", U3 TDI (in) "JTAG Pins", U4 TCK (in) "JTAG Pins", U5 TDO (out) "JTAG Pins"
part B pins: A1 VDDQ (power) "Output Power Supply", A7 VDDQ (power) "Output Power Supply", C4 VDD (power) "Power Supply", D3 VSS (power) "Ground", D5 VSS (power) "Ground", E3 VSS (power) "Ground", E5 VSS (power) "Ground", F1 VDDQ (power) "Output Power Supply", F3 VSS (power) "Ground", F5 VSS (power) "Ground", F7 VDDQ (power) "Output Power Supply", H3 VSS (power) "Ground", H5 VSS (power) "Ground", J1 VDDQ (power) "Output Power Supply", J2 VDD (power) "Power Supply", J4 VDD (power) "Power Supply", J6 VDD (power) "Power Supply", J7 VDDQ (power) "Output Power Supply", K3 VSS (power) "Ground", K5 VSS (power) "Ground", M1 VDDQ (power) "Output Power Supply", M3 VSS (power) "Ground", M5 VSS (power) "Ground", M7 VDDQ (power) "Output Power Supply", N3 VSS (power) "Ground", N5 VSS (power) "Ground", P3 VSS (power) "Ground", P5 VSS (power) "Ground", R4 VDD (power) "Power Supply", U1 VDDQ (power) "Output Power Supply", U7 VDDQ (power) "Output Power Supply"
part C pins: A4 NC "No Connect", B1 NC "No Connect", B7 NC "No Connect", C1 NC "No Connect", C7 NC "No Connect", D2 NC "No Connect", D4 NC "No Connect", D7 NC "No Connect", E1 NC "No Connect", E6 NC "No Connect", F2 NC "No Connect", G1 NC "No Connect", G5 NC "No Connect", G6 NC "No Connect", H2 NC "No Connect", H7 NC "No Connect", J3 NC "No Connect", J5 NC "No Connect", K1 NC "No Connect", K6 NC "No Connect", L2 NC "No Connect", L3 NC "No Connect", L4 NC "No Connect", L7 NC "No Connect", M6 NC "No Connect", N2 NC "No Connect", N7 NC "No Connect", P1 NC "No Connect", P6 NC "No Connect", R1 NC "No Connect", R5 NC "No Connect", R7 NC "No Connect", T1 NC "No Connect", T4 NC "No Connect", U6 NC "No Connect"

## IS61NLF51218A-6.5B3
designator U?
9 M Flow Through 'No Wait' State Bus SRAM, 512 K x 18, 0 to 70 degC, 165-Pin BGA (TF-BGA-165); Manufacturer: Integrated Silicon Solution Inc (ISSI); PartNumber: IS61NLF51218A-6.5B3; Density: 9M; Packing: Tube / Tray; Vcc: 3.3 V; VccQ: 2.5 / 3.3 V; DatasheetVersion: Rev. F; PackageVersion: Rev. B, 08/2008; PackageReference: TF-BGA-165; PackageDescription: 165-Pin 13 x 15 mm TF-BGA, Pitch 1 mm; Organization: 512Kx18; Mounting Technology: Surface Mount; ComponentLink1Description: Manufacturer URL; ComponentLink1URL: http://www.issi.com/US/index.shtml; ComponentLink2Description: Datasheet; ComponentLink2URL: http://www.issi.com/WW/pdf/61NLF_NVF25636A_51218A.pdf; ComponentLink3Description: Package Specification; ComponentLink3URL: http://www.issi.com/WW/pdf/61NLP_NVP25636A_51218A.pdf
footprint ISSI-TF-BGA-165-13000X15000DE (BGA, 165-Balls, Body 15x13mm, Pitch 1mm)
part A pins: A2 A (in) "Address Input", A3 ~{CE} (in) "Synchronous Chip Enable", A4 ~{BWb} (in) "Synchronous Byte Write Input", A6 ~{CE2} (in) "Synchronous Chip Enable", A7 ~{CKE} (in) "Clock Enable", A8 ADV (in) "Synchronous Burst Address Advance/Load", A9 A (in) "Address Input", A10 A (in) "Address Input", A11 A (in) "Address Input", B2 A (in) "Address Input", B3 CE2 (in) "Synchronous Chip Enable", B5 ~{BWa} (in) "Synchronous Byte Write Input", B6 CLK (in) "Synchronous Clock", B7 ~{WE} (in) "Synchronous Read/Write Control", B8 ~{OE} (in) "Output Enable", B10 A (in) "Address Input", C11 DQPa (io) "Parity Data I/O", D2 DQb (io) "Data Inputs/Outputs", D11 DQa (io) "Data Inputs/Outputs", E2 DQb (io) "Data Inputs/Outputs", E11 DQa (io) "Data Inputs/Outputs", F2 DQb (io) "Data Inputs/Outputs", F11 DQa (io) "Data Inputs/Outputs", G2 DQb (io) "Data Inputs/Outputs", G11 DQa (io) "Data Inputs/Outputs", H11 ZZ (in) "Power Sleep Mode", J1 DQb (io) "Data Inputs/Outputs", J10 DQa (io) "Data Inputs/Outputs", K1 DQb (io) "Data Inputs/Outputs", K10 DQa (io) "Data Inputs/Outputs", L1 DQb (io) "Data Inputs/Outputs", L10 DQa (io) "Data Inputs/Outputs", M1 DQb (io) "Data Inputs/Outputs", M10 DQa (io) "Data Inputs/Outputs", N1 DQPb (io) "Parity Data I/O", P3 A (in) "Address Input", P4 A (in) "Address Input", P5 TDI (in) "JTAG Pin", P6 A1 (in) "Synchronous Burst Address Input", P7 TDO (out) "JTAG Pin", P8 A (in) "Address Input", P9 A (in) "Address Input", P10 A (in) "Address Input", R1 MODE (in) "Burst Sequence Selection", R3 A (in) "Address Input", R4 A (in) "Address Input", R5 TMS (in) "JTAG Pin", R6 A0 (in) "Synchronous Burst Address Input", R7 TCK (in) "JTAG Pin", R8 A (in) "Address Input", R9 A (in) "Address Input", R10 A (in) "Address Input", R11 A (in) "Address Input"
part B pins: C3 VDDQ (power) "Isolated output Power Supply 3.3V/2.5V", C4 VSS (power) "Ground", C5 VSS (power) "Ground", C6 VSS (power) "Ground", C7 VSS (power) "Ground", C8 VSS (power) "Ground", C9 VDDQ (power) "Isolated output Power Supply 3.3V/2.5V", D3 VDDQ (power) "Isolated output Power Supply 3.3V/2.5V", D4 VDD (power) "3.3V/2.5V Power Supply", D5 VSS (power) "Ground", D6 VSS (power) "Ground", D7 VSS (power) "Ground", D8 VDD (power) "3.3V/2.5V Power Supply", D9 VDDQ (power) "Isolated output Power Supply 3.3V/2.5V", E3 VDDQ (power) "Isolated output Power Supply 3.3V/2.5V", E4 VDD (power) "3.3V/2.5V Power Supply", E5 VSS (power) "Ground", E6 VSS (power) "Ground", E7 VSS (power) "Ground", E8 VDD (power) "3.3V/2.5V Power Supply", E9 VDDQ (power) "Isolated output Power Supply 3.3V/2.5V", F3 VDDQ (power) "Isolated output Power Supply 3.3V/2.5V", F4 VDD (power) "3.3V/2.5V Power Supply", F5 VSS (power) "Ground", F6 VSS (power) "Ground", F7 VSS (power) "Ground", F8 VDD (power) "3.3V/2.5V Power Supply", F9 VDDQ (power) "Isolated output Power Supply 3.3V/2.5V", G3 VDDQ (power) "Isolated output Power Supply 3.3V/2.5V", G4 VDD (power) "3.3V/2.5V Power Supply", G5 VSS (power) "Ground", G6 VSS (power) "Ground", G7 VSS (power) "Ground", G8 VDD (power) "3.3V/2.5V Power Supply", G9 VDDQ (power) "Isolated output Power Supply 3.3V/2.5V", H4 VDD (power) "3.3V/2.5V Power Supply", H5 VSS (power) "Ground", H6 VSS (power) "Ground", H7 VSS (power) "Ground", H8 VDD (power) "3.3V/2.5V Power Supply", J3 VDDQ (power) "Isolated output Power Supply 3.3V/2.5V", J4 VDD (power) "3.3V/2.5V Power Supply", J5 VSS (power) "Ground", J6 VSS (power) "Ground", J7 VSS (power) "Ground", J8 VDD (power) "3.3V/2.5V Power Supply", J9 VDDQ (power) "Isolated output Power Supply 3.3V/2.5V", K3 VDDQ (power) "Isolated output Power Supply 3.3V/2.5V", K4 VDD (power) "3.3V/2.5V Power Supply", K5 VSS (power) "Ground", K6 VSS (power) "Ground", K7 VSS (power) "Ground", K8 VDD (power) "3.3V/2.5V Power Supply", K9 VDDQ (power) "Isolated output Power Supply 3.3V/2.5V", L3 VDDQ (power) "Isolated output Power Supply 3.3V/2.5V", L4 VDD (power) "3.3V/2.5V Power Supply", L5 VSS (power) "Ground", L6 VSS (power) "Ground", L7 VSS (power) "Ground", L8 VDD (power) "3.3V/2.5V Power Supply", L9 VDDQ (power) "Isolated output Power Supply 3.3V/2.5V", M3 VDDQ (power) "Isolated output Power Supply 3.3V/2.5V", M4 VDD (power) "3.3V/2.5V Power Supply", M5 VSS (power) "Ground", M6 VSS (power) "Ground", M7 VSS (power) "Ground", M8 VDD (power) "3.3V/2.5V Power Supply", M9 VDDQ (power) "Isolated output Power Supply 3.3V/2.5V", N3 VDDQ (power) "Isolated output Power Supply 3.3V/2.5V", N4 VSS (power) "Ground", N8 VSS (power) "Ground", N9 VDDQ (power) "Isolated output Power Supply 3.3V/2.5V"
part C pins: A1 NC "No Connect", A5 NC "No Connect", B1 NC "No Connect", B4 NC "No Connect", B9 NC "No Connect", B11 NC "No Connect", C1 NC "No Connect", C2 NC "No Connect", C10 NC "No Connect", D1 NC "No Connect", D10 NC "No Connect", E1 NC "No Connect", E10 NC "No Connect", F1 NC "No Connect", F10 NC "No Connect", G1 NC "No Connect", G10 NC "No Connect", H1 NC "No Connect", H2 NC "No Connect", H3 NC "No Connect", H9 NC "No Connect", H10 NC "No Connect", J2 NC "No Connect", J11 NC "No Connect", K2 NC "No Connect", K11 NC "No Connect", L2 NC "No Connect", L11 NC "No Connect", M2 NC "No Connect", M11 NC "No Connect", N2 NC "No Connect", N5 NC "No Connect", N6 NC "No Connect", N7 NC "No Connect", N10 NC "No Connect", N11 NC "No Connect", P1 NC "No Connect", P2 NC "No Connect", P11 NC "No Connect", R2 NC "No Connect"

## IS61NLF51218A-6.5B3-TR
designator U?
9 M Flow Through 'No Wait' State Bus SRAM, 512 K x 18, 0 to 70 degC, 165-Pin BGA (TF-BGA-165); Manufacturer: Integrated Silicon Solution Inc (ISSI); PartNumber: IS61NLF51218A-6.5B3-TR; Density: 9M; Packing: Tape & Reel; Vcc: 3.3 V; VccQ: 2.5 / 3.3 V; DatasheetVersion: Rev. F; PackageVersion: Rev. B, 08/2008; PackageReference: TF-BGA-165; PackageDescription: 165-Pin 13 x 15 mm TF-BGA, Pitch 1 mm; Organization: 512Kx18; Mounting Technology: Surface Mount; ComponentLink1Description: Manufacturer URL; ComponentLink1URL: http://www.issi.com/US/index.shtml; ComponentLink2Description: Datasheet; ComponentLink2URL: http://www.issi.com/WW/pdf/61NLF_NVF25636A_51218A.pdf; ComponentLink3Description: Package Specification; ComponentLink3URL: http://www.issi.com/WW/pdf/61NLP_NVP25636A_51218A.pdf
footprint ISSI-TF-BGA-165-13000X15000DE (BGA, 165-Balls, Body 15x13mm, Pitch 1mm)
part A pins: A2 A (in) "Address Input", A3 ~{CE} (in) "Synchronous Chip Enable", A4 ~{BWb} (in) "Synchronous Byte Write Input", A6 ~{CE2} (in) "Synchronous Chip Enable", A7 ~{CKE} (in) "Clock Enable", A8 ADV (in) "Synchronous Burst Address Advance/Load", A9 A (in) "Address Input", A10 A (in) "Address Input", A11 A (in) "Address Input", B2 A (in) "Address Input", B3 CE2 (in) "Synchronous Chip Enable", B5 ~{BWa} (in) "Synchronous Byte Write Input", B6 CLK (in) "Synchronous Clock", B7 ~{WE} (in) "Synchronous Read/Write Control", B8 ~{OE} (in) "Output Enable", B10 A (in) "Address Input", C11 DQPa (io) "Parity Data I/O", D2 DQb (io) "Data Inputs/Outputs", D11 DQa (io) "Data Inputs/Outputs", E2 DQb (io) "Data Inputs/Outputs", E11 DQa (io) "Data Inputs/Outputs", F2 DQb (io) "Data Inputs/Outputs", F11 DQa (io) "Data Inputs/Outputs", G2 DQb (io) "Data Inputs/Outputs", G11 DQa (io) "Data Inputs/Outputs", H11 ZZ (in) "Power Sleep Mode", J1 DQb (io) "Data Inputs/Outputs", J10 DQa (io) "Data Inputs/Outputs", K1 DQb (io) "Data Inputs/Outputs", K10 DQa (io) "Data Inputs/Outputs", L1 DQb (io) "Data Inputs/Outputs", L10 DQa (io) "Data Inputs/Outputs", M1 DQb (io) "Data Inputs/Outputs", M10 DQa (io) "Data Inputs/Outputs", N1 DQPb (io) "Parity Data I/O", P3 A (in) "Address Input", P4 A (in) "Address Input", P5 TDI (in) "JTAG Pin", P6 A1 (in) "Synchronous Burst Address Input", P7 TDO (out) "JTAG Pin", P8 A (in) "Address Input", P9 A (in) "Address Input", P10 A (in) "Address Input", R1 MODE (in) "Burst Sequence Selection", R3 A (in) "Address Input", R4 A (in) "Address Input", R5 TMS (in) "JTAG Pin", R6 A0 (in) "Synchronous Burst Address Input", R7 TCK (in) "JTAG Pin", R8 A (in) "Address Input", R9 A (in) "Address Input", R10 A (in) "Address Input", R11 A (in) "Address Input"
part B pins: C3 VDDQ (power) "Isolated output Power Supply 3.3V/2.5V", C4 VSS (power) "Ground", C5 VSS (power) "Ground", C6 VSS (power) "Ground", C7 VSS (power) "Ground", C8 VSS (power) "Ground", C9 VDDQ (power) "Isolated output Power Supply 3.3V/2.5V", D3 VDDQ (power) "Isolated output Power Supply 3.3V/2.5V", D4 VDD (power) "3.3V/2.5V Power Supply", D5 VSS (power) "Ground", D6 VSS (power) "Ground", D7 VSS (power) "Ground", D8 VDD (power) "3.3V/2.5V Power Supply", D9 VDDQ (power) "Isolated output Power Supply 3.3V/2.5V", E3 VDDQ (power) "Isolated output Power Supply 3.3V/2.5V", E4 VDD (power) "3.3V/2.5V Power Supply", E5 VSS (power) "Ground", E6 VSS (power) "Ground", E7 VSS (power) "Ground", E8 VDD (power) "3.3V/2.5V Power Supply", E9 VDDQ (power) "Isolated output Power Supply 3.3V/2.5V", F3 VDDQ (power) "Isolated output Power Supply 3.3V/2.5V", F4 VDD (power) "3.3V/2.5V Power Supply", F5 VSS (power) "Ground", F6 VSS (power) "Ground", F7 VSS (power) "Ground", F8 VDD (power) "3.3V/2.5V Power Supply", F9 VDDQ (power) "Isolated output Power Supply 3.3V/2.5V", G3 VDDQ (power) "Isolated output Power Supply 3.3V/2.5V", G4 VDD (power) "3.3V/2.5V Power Supply", G5 VSS (power) "Ground", G6 VSS (power) "Ground", G7 VSS (power) "Ground", G8 VDD (power) "3.3V/2.5V Power Supply", G9 VDDQ (power) "Isolated output Power Supply 3.3V/2.5V", H4 VDD (power) "3.3V/2.5V Power Supply", H5 VSS (power) "Ground", H6 VSS (power) "Ground", H7 VSS (power) "Ground", H8 VDD (power) "3.3V/2.5V Power Supply", J3 VDDQ (power) "Isolated output Power Supply 3.3V/2.5V", J4 VDD (power) "3.3V/2.5V Power Supply", J5 VSS (power) "Ground", J6 VSS (power) "Ground", J7 VSS (power) "Ground", J8 VDD (power) "3.3V/2.5V Power Supply", J9 VDDQ (power) "Isolated output Power Supply 3.3V/2.5V", K3 VDDQ (power) "Isolated output Power Supply 3.3V/2.5V", K4 VDD (power) "3.3V/2.5V Power Supply", K5 VSS (power) "Ground", K6 VSS (power) "Ground", K7 VSS (power) "Ground", K8 VDD (power) "3.3V/2.5V Power Supply", K9 VDDQ (power) "Isolated output Power Supply 3.3V/2.5V", L3 VDDQ (power) "Isolated output Power Supply 3.3V/2.5V", L4 VDD (power) "3.3V/2.5V Power Supply", L5 VSS (power) "Ground", L6 VSS (power) "Ground", L7 VSS (power) "Ground", L8 VDD (power) "3.3V/2.5V Power Supply", L9 VDDQ (power) "Isolated output Power Supply 3.3V/2.5V", M3 VDDQ (power) "Isolated output Power Supply 3.3V/2.5V", M4 VDD (power) "3.3V/2.5V Power Supply", M5 VSS (power) "Ground", M6 VSS (power) "Ground", M7 VSS (power) "Ground", M8 VDD (power) "3.3V/2.5V Power Supply", M9 VDDQ (power) "Isolated output Power Supply 3.3V/2.5V", N3 VDDQ (power) "Isolated output Power Supply 3.3V/2.5V", N4 VSS (power) "Ground", N8 VSS (power) "Ground", N9 VDDQ (power) "Isolated output Power Supply 3.3V/2.5V"
part C pins: A1 NC "No Connect", A5 NC "No Connect", B1 NC "No Connect", B4 NC "No Connect", B9 NC "No Connect", B11 NC "No Connect", C1 NC "No Connect", C2 NC "No Connect", C10 NC "No Connect", D1 NC "No Connect", D10 NC "No Connect", E1 NC "No Connect", E10 NC "No Connect", F1 NC "No Connect", F10 NC "No Connect", G1 NC "No Connect", G10 NC "No Connect", H1 NC "No Connect", H2 NC "No Connect", H3 NC "No Connect", H9 NC "No Connect", H10 NC "No Connect", J2 NC "No Connect", J11 NC "No Connect", K2 NC "No Connect", K11 NC "No Connect", L2 NC "No Connect", L11 NC "No Connect", M2 NC "No Connect", M11 NC "No Connect", N2 NC "No Connect", N5 NC "No Connect", N6 NC "No Connect", N7 NC "No Connect", N10 NC "No Connect", N11 NC "No Connect", P1 NC "No Connect", P2 NC "No Connect", P11 NC "No Connect", R2 NC "No Connect"

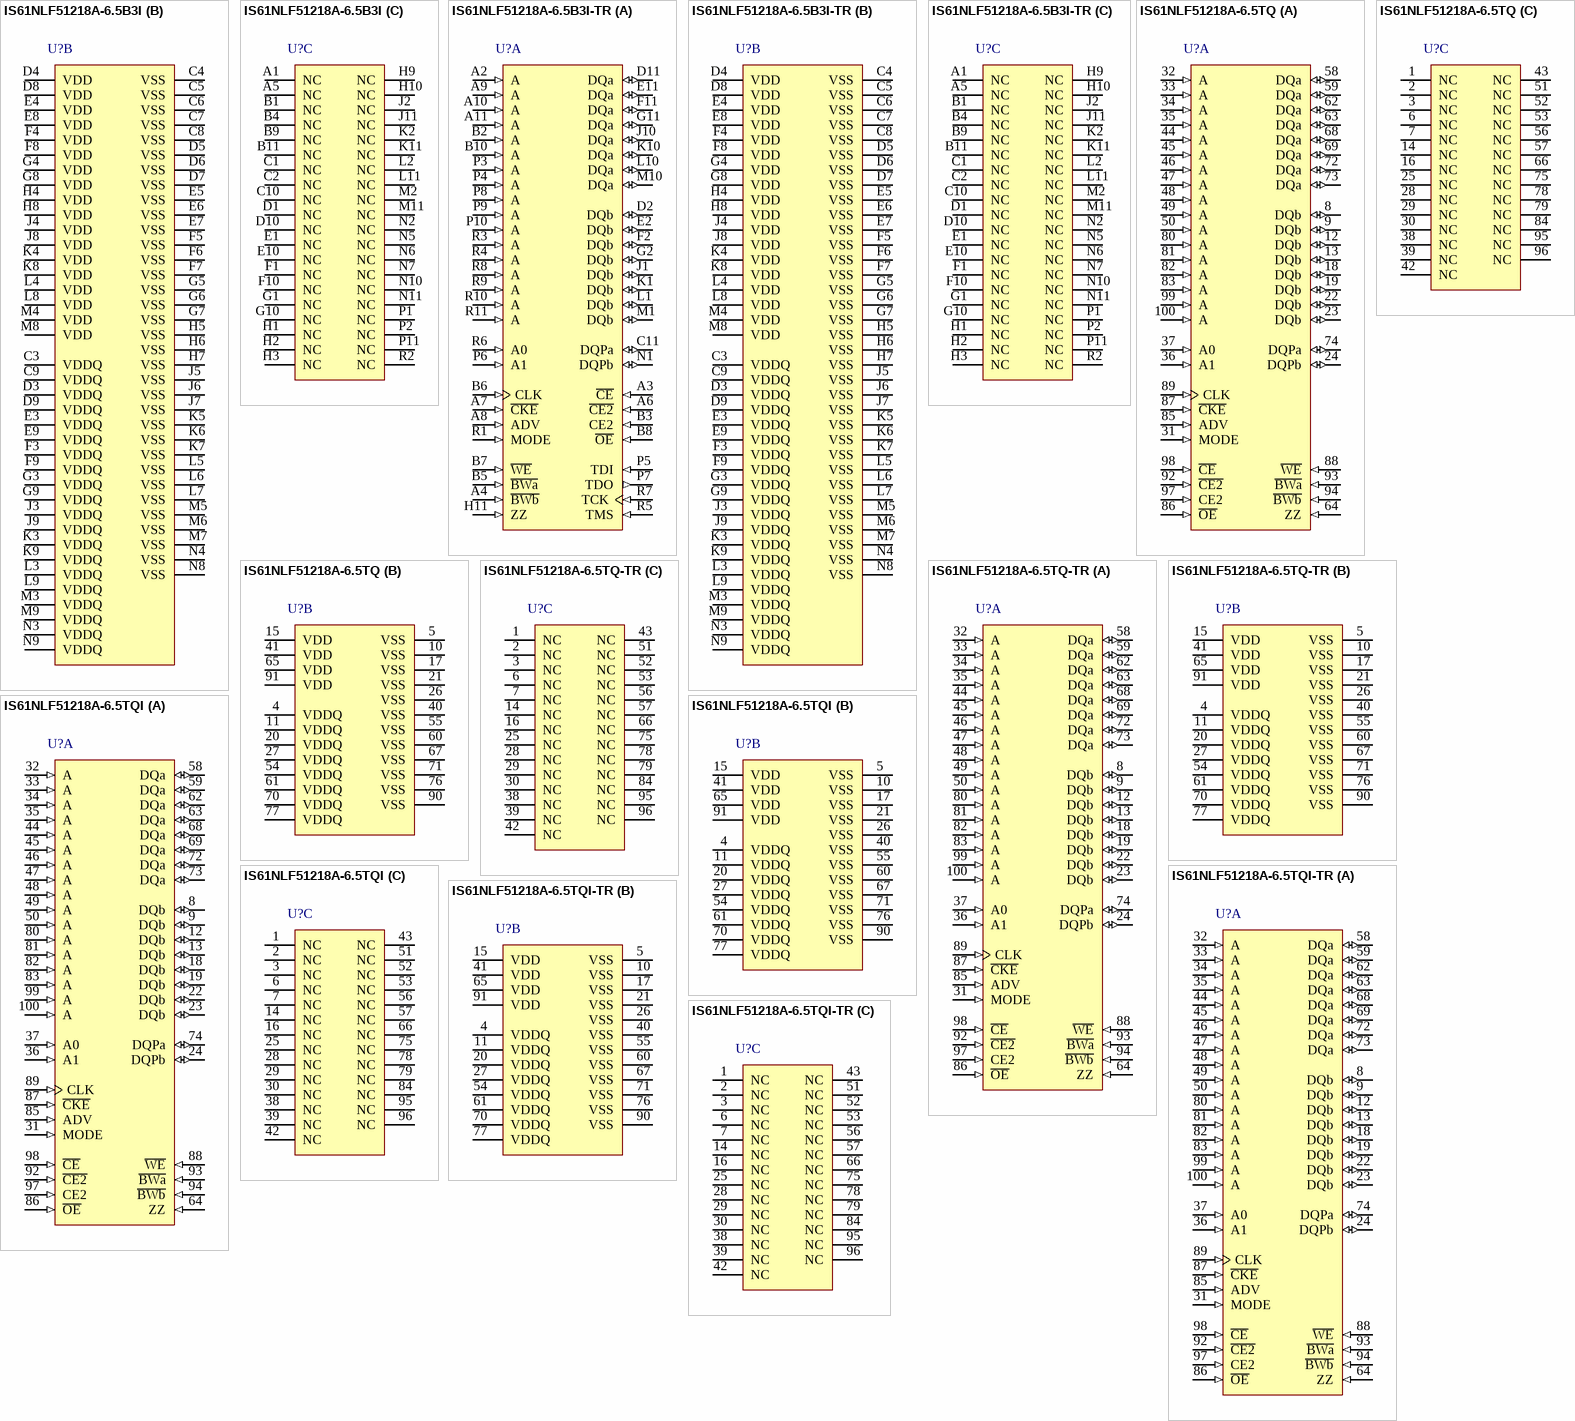
[diagram p46: symbols IS61NLF51218A-6.5B3I to IS61NLF51218A-6.5TQI-TR]